# Altium schematic symbol library 10118194-0001LF.SchLib: 1 symbol
Pins are listed as number, name and electrical type; pins without a type are passive.

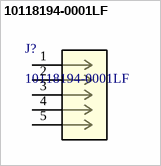
[diagram p0: symbol 10118194-0001LF]

## 10118194-0001LF
designator J?
Description; Manufacturer_Name: Amphenol ICC; Copyright: Copyright (C) 2026 Ultra Librarian. All rights reserved.; Manufacturer_Part_Number: 10118194-0001LF; RefDes: RefDes; Type: Type
footprint CONN_10118194-0001LF_AMP
pins: 1, 2, 3, 4, 5